# Altium footprint library Soldeerstation.PcbLib: 34 footprints (part 3 of 3)
Each footprint in its own frame and in the unit in brackets; x right, y up, seen from the top. Pads: shape width x height; smd on the part's side, far side on the other; paste and mask are expansions set on the pad; w line width, h text height; cw(c..) or ccw(c..) is an arc to the next point about the centre after c.
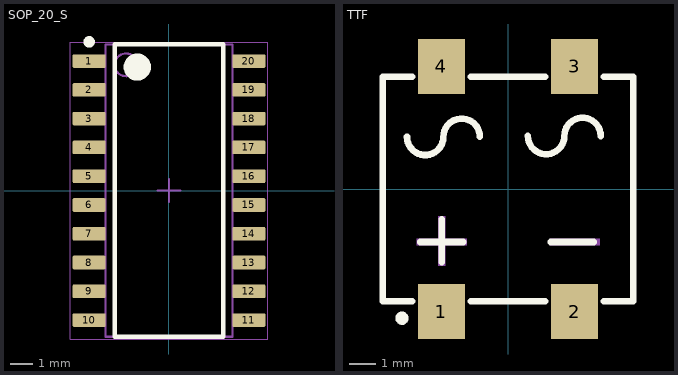
[diagram p2: the footprints below, top view; thin cyan lines are the x and y axes]

## SOP_20_S [mm] "SOIC,20-Leads,Body 12.9x5.6mm,Pitch 1.27mm,IPC High Density"
height 2
pads (20):
  rrect17% 1.45x0.6 smd: 1(-3.525,5.715) 2(-3.525,4.445) 3(-3.525,3.175) 4(-3.525,1.905) 5(-3.525,0.635) 6(-3.525,-0.635) 7(-3.525,-1.905) 8(-3.525,-3.175) 9(-3.525,-4.445) 10(-3.525,-5.715) 11(3.525,-5.715) 12(3.525,-4.445) 13(3.525,-3.175) 14(3.525,-1.905) 15(3.525,-0.635) 16(3.525,0.635) 17(3.525,1.905) 18(3.525,3.175) 19(3.525,4.445) 20(3.525,5.715)
Top Overlay:
  circle w0.25: c-3.525,6.565 r0.125
  circle w0.6: c-1.4,5.45 r0.3
  lines w0.2: -2.4,-6.45 -2.4,6.45 2.4,6.45 2.4,-6.45 -2.4,-6.45
Mechanical 1:
  text ".Designator" at -1.524,-0.508 h1.02
Mechanical 13:
  circle w0.1: c-1.9,5.55 r0.5
  lines w0.1: -2.8,-6.45 -2.8,6.45 2.8,6.45 2.8,-6.45 -2.8,-6.45
Mechanical 15:
  lines w0.05: -4.35,-6.55 -4.35,6.55 4.35,6.55 4.35,-6.55 -4.35,-6.55
  lines w0.1: -0.5,0 0.5,0 ; 0,-0.5 0,0.5
3D body: height 2, standoff 0.05, extent -2.8,-6.45 2.8,6.45

## TTF [mm] "C712546"
pads (4):
  rect 1.8x2.1 smd: 1(-2.55,-4.7) 2(2.55,-4.7) 3(2.55,4.7) 4(-2.55,4.7)
Top Overlay:
  circle w0.254: c-4.064,-4.953 r0.127
  lines w0.254: -3.874,2 ccw(c-3.175,2) -2.477,2 cw(c-1.778,2) -1.08,2 ; -3.681,-4.3 -4.8,-4.3 -4.8,4.3 -3.681,4.3 ; -3.365,-2.032 -1.714,-2.032 ; -2.54,-2.811 -2.54,-1.16 ; -1.419,-4.3 1.419,-4.3 ; -1.419,4.3 1.419,4.3 ; 0.762,2.032 ccw(c1.46,2.032) 2.159,2.032 cw(c2.857,2.032) 3.556,2.032 ; 1.634,-2.032 3.285,-2.032 ; 3.681,-4.3 4.8,-4.3 4.8,4.3 3.681,4.3
Mechanical 15:
  region: -3.49,-1.9 -1.59,-1.9 -1.59,-2.16 -3.49,-2.16
  region: 1.61,-1.9 3.51,-1.9 3.51,-2.16 1.61,-2.16
  region: -2.67,-2.94 -2.67,-1.04 -2.41,-1.04 -2.41,-2.94
3D body "TTF v2.step": height 1.73, standoff -0.1, extent -4.791,-5.105 4.953,5.08